# Altium schematic symbol library Resistors.SCHLIB: 8 symbols
Pins are listed as number, name and electrical type; pins without a type are passive.

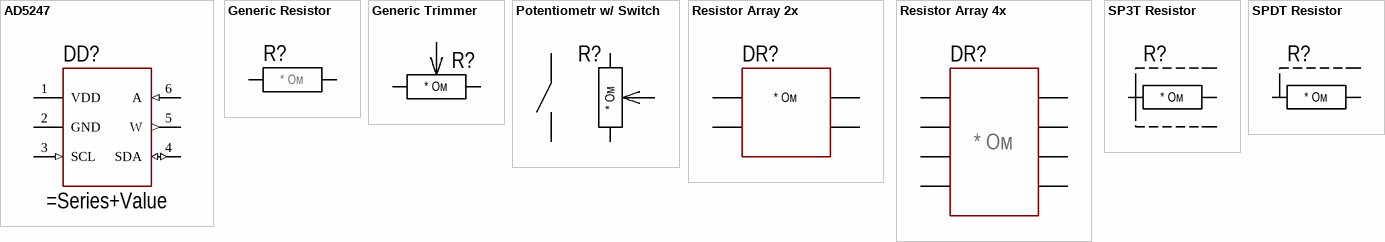
[diagram p0: symbols AD5247 to SPDT Resistor]

## AD5247
designator DD?
128-Position I2C-Compatible Digital Potentiometr
pins: 1 VDD, 2 GND, 3 SCL (in), 4 SDA (io), 5 W (out), 6 A (in)

## Generic Resistor
designator R?, comment value * Ом  (hidden comment: * * Ом±*)
Generic Chip Resistor; Tolerance: ±*; Package: *
pins: 1, 2

## Generic Trimmer
designator R?  Value_SPEC: * Ом
Generic Trimming Resistor; Tolerance: ±*; Index: *; Value: *; Series: *
pins: 1, 2, 3

## Potentiometr w/ Switch
designator R?  Value_SCH: * Ом
Potentiometr with Integrated Switch
pins: 1, 2, 3, 4, 5

## Resistor Array 2x
designator DR?  Value_SPEC: * Ом
Resistor Array of 2 Resistors
pins: 1, 2, 3, 4
1 alternate drawing of the same symbol

## Resistor Array 4x
designator DR?  Value_SPEC: * Ом
Resistor Array of 4 Resistors
pins: 1, 2, 3, 4, 5, 6, 7, 8

## SP3T Resistor
designator R?, comment value * Ом  (hidden comment: 0402 * Ом±*)
Triple Strap Resistor; Package: 0402; Tolerance: ±*
pins: 1, 2, 3, 4
1 alternate drawing of the same symbol

## SPDT Resistor
designator R?, comment value * Ом  (hidden comment: 0402 * Ом±*)
Dual Strap Resistor; Package: 0402; Tolerance: ±*
pins: 1, 2, 3
1 alternate drawing of the same symbol